# Altium footprint library WAKEFIELD_OMNI-UNI-27-25.PcbLib: 1 footprints
Each footprint in its own frame and in the unit in brackets; x right, y up, seen from the top. Pads: shape width x height; smd on the part's side, far side on the other; paste and mask are expansions set on the pad; w line width, h text height; cw(c..) or ccw(c..) is an arc to the next point about the centre after c.
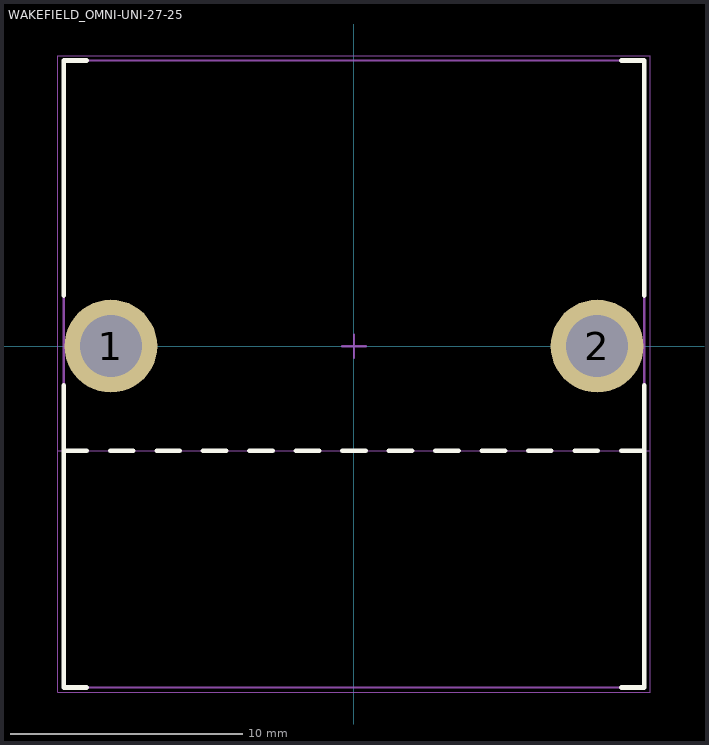
[diagram p0: the footprint, top view; thin cyan lines are the x and y axes]

## WAKEFIELD_OMNI-UNI-27-25 [mm]
height 38.1
pads (2):
  round 4 hole 2.67: 1(-10.47,0) 2(10.47,0)
Top Overlay:
  lines w0.2: -12.5,-4.5 -11.5,-4.5 ; -12.5,-1.68 -12.5,-14.7 -11.5,-14.7 ; -12.5,2.18 -12.5,12.3 -11.5,12.3 ; -10.5,-4.5 -9.5,-4.5 ; -8.5,-4.5 -7.5,-4.5 ; -6.5,-4.5 -5.5,-4.5 ; -4.5,-4.5 -3.5,-4.5 ; -2.5,-4.5 -1.5,-4.5 ; -0.5,-4.5 0.5,-4.5 ; 1.5,-4.5 2.5,-4.5 ; 3.5,-4.5 4.5,-4.5 ; 5.5,-4.5 6.5,-4.5 ; 7.5,-4.5 8.5,-4.5 ; 9.5,-4.5 10.5,-4.5 ; 11.5,-14.7 12.5,-14.7 12.5,-1.68 ; 11.5,-4.5 12.5,-4.5 ; 11.5,12.3 12.5,12.3 12.5,2.18
Mechanical 13:
  lines w0.1: -12.5,-14.7 12.5,-14.7 ; -12.5,-12.67 -12.5,12.3 12.5,12.3 12.5,-12.67
Mechanical 15:
  lines w0.05: -12.75,-4.5 12.75,-4.5 ; -12.75,-14.9 12.75,-14.9 12.75,12.5 -12.75,12.5 -12.75,-14.9
  lines w0.1: -0.5,0 0.5,0 ; 0,-0.5 0,0.5
  text "Thermal Interface" at -2.879,-3.95 h0.5
3D body "WAKEFIELD_OMNI-UNI-27-25.stp": height 50.05, standoff -3.8, extent -12.5,-14.497 12.5,12.498